# Altium footprint library halcyxn_lib_pcb.PcbLib: 35 footprints (part 2 of 3)
Each footprint in its own frame and in the unit in brackets; x right, y up, seen from the top. Pads: shape width x height; smd on the part's side, far side on the other; paste and mask are expansions set on the pad; w line width, h text height; cw(c..) or ccw(c..) is an arc to the next point about the centre after c.
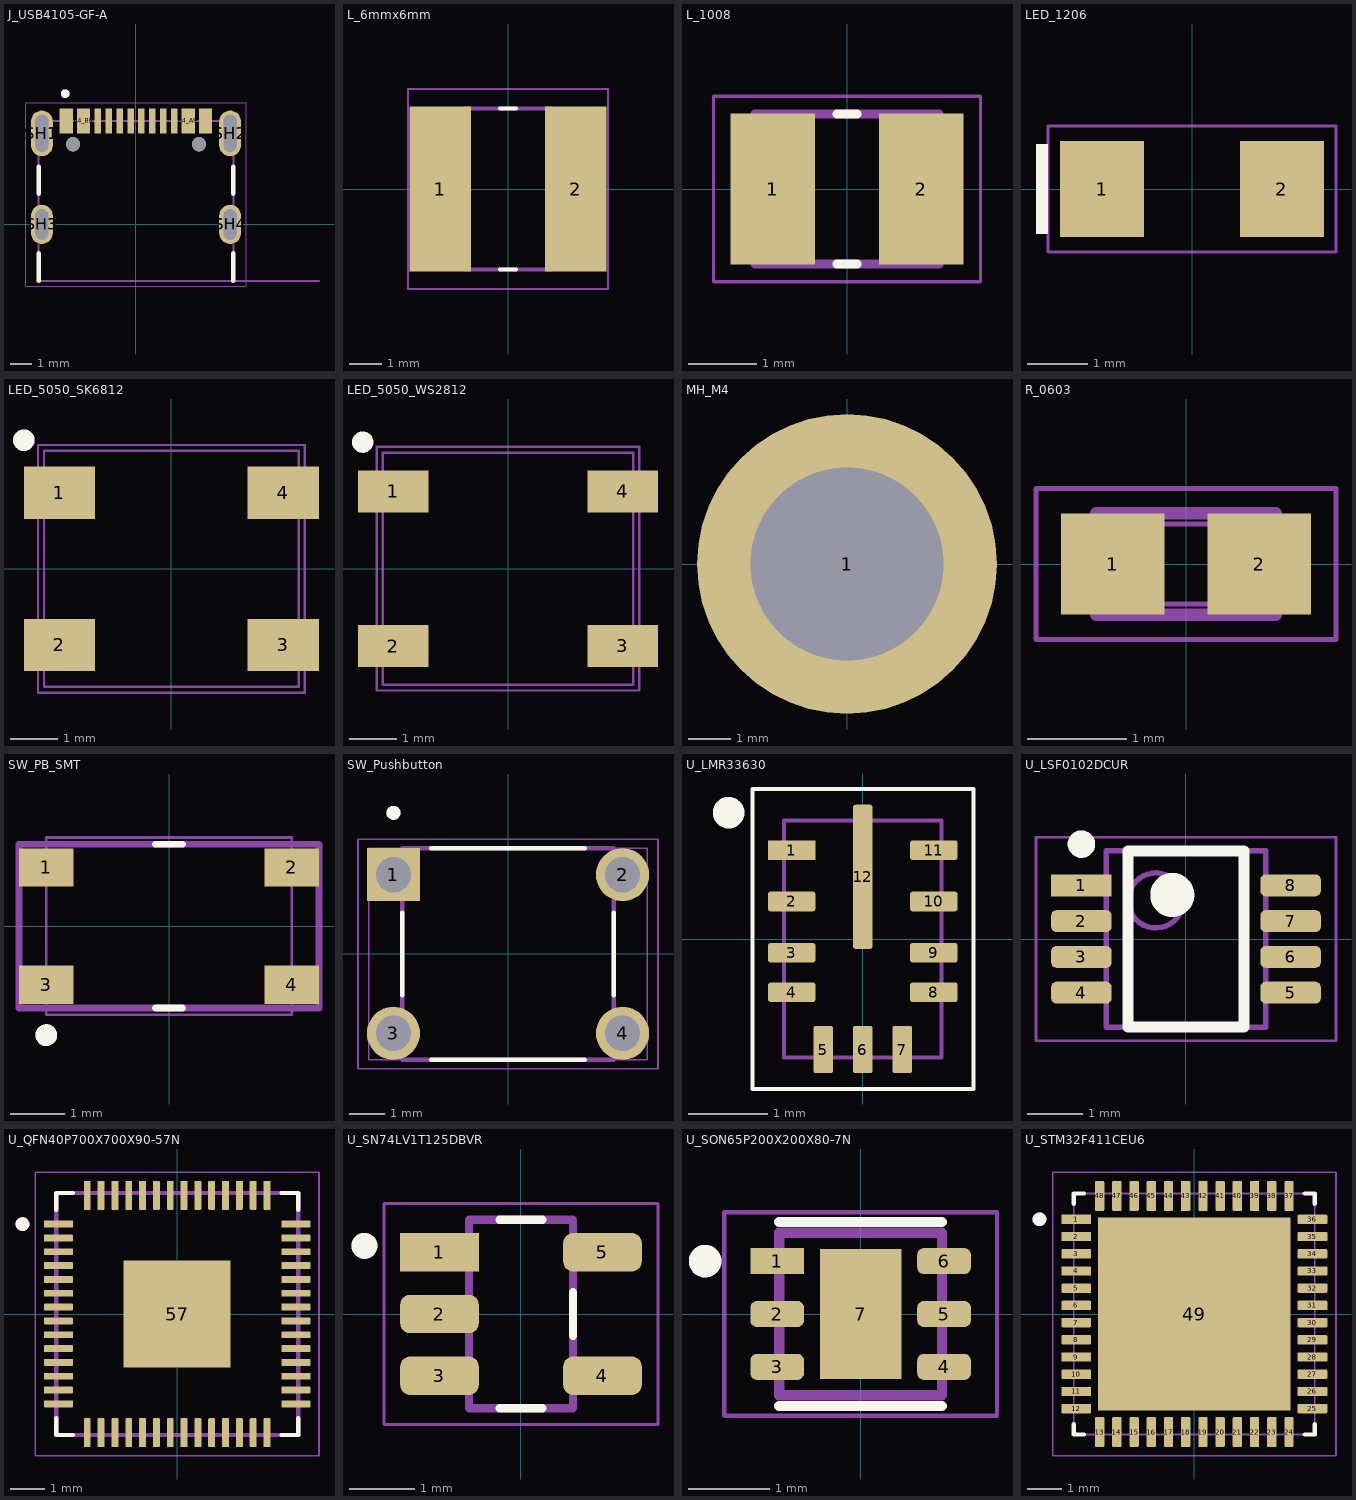
[diagram p1: the footprints below, top view; thin cyan lines are the x and y axes]

## J_USB4105-GF-A [mm]
height 3.31
pads (18):
  rect 0.6x1.15 smd mask+0.05: A1_B12(-3.2,4.755) A4_B9(-2.4,4.755) B1_A12(3.2,4.755) B4_A9(2.4,4.755)
  rect 0.3x1.15 smd mask+0.05: A5(-1.25,4.755) A6(-0.25,4.755) A7(0.25,4.755) A8(1.25,4.755) B5(1.75,4.755) B6(0.75,4.755) B7(-0.75,4.755) B8(-1.75,4.755)
  oval 1x2.1 hole 0.6 slot 1.7 at 90 deg: SH1(-4.32,4.18) SH2(4.32,4.18)
  oval 1x1.8 hole 0.6 slot 1.4 at 90 deg: SH3(-4.32,0) SH4(4.32,0)
  round 0.65 hole 0.65 unplated: ""(-2.89,3.68) ""(2.89,3.68)
Top Overlay:
  circle w0.2: c-3.25,6 r0.1
  lines w0.2: -4.47,-2.6 -4.47,-1.32 ; -4.47,1.4 -4.47,2.65 ; 4.47,-2.6 4.47,-1.32 ; 4.47,1.4 4.47,2.65
Mechanical 13:
  circle w0.2: c-3.25,6 r0.1
  lines w0.1: 8.4,-2.6 4.47,-2.6 ; 4.47,-2.6 4.47,4.75 -4.47,4.75 -4.47,-2.6 4.47,-2.6
  text "PCB EDGE" at 5.4,-2.5 h0.41
Mechanical 15:
  lines w0.05: -5.07,-2.85 -5.07,5.58 5.07,5.58 5.07,-2.85 -5.07,-2.85
3D body "USB4105-GF-A.step": height 3.31, standoff -1.1, extent -4.47,-2.6 4.47,5.11

## L_6mmx6mm [mm]
pads (2):
  rect 1.9x5.1 smd: 1(-2.1,0) 2(2.1,0)
Top Overlay:
  lines w0.127: -0.254,-2.5 0.254,-2.5 ; -0.254,2.5 0.254,2.5
Mechanical 13:
  lines w0.127: -1.35,-2.5 -1.35,2.5 1.35,2.5 1.35,-2.5 -1.35,-2.5
Mechanical 15:
  lines w0.05: -3.1,-3.1 3.1,-3.1 3.1,3.1 -3.1,3.1 -3.1,-3.1
3D body "VLS6045EX-6R8M.STEP": height 4.5, standoff 0, extent -3,-3 3,3

## L_1008 [mm]
pads (2):
  rect 1.24x2.22 smd: 1(-1.09,0) 2(1.09,0)
Top Overlay:
  lines w0.127: -0.15,-1.1 0.15,-1.1 ; -0.15,1.1 0.15,1.1
Mechanical 13:
  lines w0.127: -1.35,-1.1 -1.35,1.1 1.35,1.1 1.35,-1.1 -1.35,-1.1
Mechanical 15:
  lines w0.05: -1.958,-1.358 -1.958,1.358 1.958,1.358 1.958,-1.358 -1.958,-1.358
3D body "DFE252012P-1R0M_P2.step": height 1.2, standoff 0, extent -1.25,-1 1.25,1

## LED_1206 [mm] "SMD Mono-color Chip LED, body 3.2x1.6mm"
height 0.68
pads (2):
  rect 1.4x1.6 smd: 1(-1.5,0) 2(1.5,0)
Top Overlay:
  rectangle: -2.6,-0.75 -2.4,0.75
Mechanical 15:
  lines w0.05: -2.4,-1.05 2.4,-1.05 2.4,1.05 -2.4,1.05 -2.4,-1.05
3D body "150120xS75000.stp": height 0.68, standoff 0, extent -1.6,-0.8 1.6,0.8

## LED_5050_SK6812 [mm] "5mm x 5mm LED package"
pads (4):
  rect 1.5x1.1 smd: 1(-2.35,1.6) 2(-2.35,-1.6) 3(2.35,-1.6) 4(2.35,1.6)
Top Overlay:
  circle w0.254: c-3.1,2.7 r0.1
Top Component Outline:
  lines w0.051: -2.675,-2.475 -2.675,2.475 2.675,2.475 2.675,-2.475 -2.675,-2.475
Mechanical 15:
  lines w0.05: -2.8,-2.6 2.8,-2.6 2.8,2.6 -2.8,2.6 -2.8,-2.6
3D body "WS2812_RGB_LED_updated.step": height 1.5, standoff -0.2, extent -2.675,-2.475 2.675,2.475

## LED_5050_WS2812 [mm] "5mm x 5mm LED package"
pads (4):
  rect 1.5x0.9 smd: 1(-2.45,1.65) 2(-2.45,-1.65) 3(2.448,-1.647) 4(2.45,1.65)
Top Overlay:
  circle w0.254: c-3.1,2.7 r0.1
Top Component Outline:
  lines w0.051: -2.675,-2.475 2.675,-2.475 2.675,2.475 -2.675,2.475 -2.675,-2.475
Mechanical 15:
  lines w0.05: -2.8,-2.6 -2.8,2.6 2.8,2.6 2.8,-2.6 -2.8,-2.6
3D body "WS2812_RGB_LED_updated.step": height 1.5, standoff -0.2, extent -2.675,-2.475 2.675,2.475

## MH_M4 [mm] "M4 mounting hole"
pads (1):
  round 7 hole 4.5: 1(0,0)
3D body "???_83.STEP": height 4, standoff -18, extent -3.488,-3.5 3.488,3.5

## R_0603 [mm]
pads (2):
  rect 1.04x1.02 smd: 1(-0.735,0) 2(0.735,0)
Top Component Outline:
  lines w0.051: -0.8,-0.4 0.8,-0.4 0.8,0.4 -0.8,0.4 -0.8,-0.4
Mechanical 13:
  lines w0.127: -0.9,-0.51 0.9,-0.51 0.9,0.51 -0.9,0.51 -0.9,-0.51
Mechanical 15:
  lines w0.05: -1.508,-0.761 1.508,-0.761 1.508,0.761 -1.508,0.761 -1.508,-0.761
3D body "RC0603JR-070RL.step": height 0.55, standoff 0, extent -0.8,-0.4 0.8,0.4

## SW_PB_SMT [mm]
pads (4):
  rect 1x0.7 smd: 1(-2.25,1.075) 2(2.25,1.075) 3(-2.25,-1.075) 4(2.25,-1.075)
Top Overlay:
  circle w0.2: c-2.25,-2 r0.1
  lines w0.127: -0.25,-1.5 0.25,-1.5 ; -0.25,1.5 0.25,1.5
Mechanical 13:
  circle w0.2: c-2.25,-2 r0.1
  lines w0.127: -2.75,-1.5 -2.75,1.5 2.75,1.5 2.75,-1.5 -2.75,-1.5
Mechanical 15:
  lines w0.05: -2.25,-1.625 -2.25,1.625 2.25,1.625 2.25,-1.625 -2.25,-1.625
3D body "PTS815SJM250SMTRLFS.stp": height 2.5, standoff 0, extent -2.25,-1.6 2.25,1.6

## SW_Pushbutton [mm] "Tactile pushbutton switch, 4-pin, through-hole"
pads (4):
  rect 1.508x1.508 / inner round 1.508 / far side rect 1.508x1.508 hole 1: 1(-3.25,2.25)
  round 1.508 hole 1: 2(3.25,2.25) 3(-3.25,-2.25) 4(3.25,-2.25)
Top Overlay:
  circle w0.2: c-3.25,4.004 r0.1
  lines w0.127: -3,-1.176 -3,1.176 ; -2.176,-3 2.176,-3 ; -2.176,3 2.176,3 ; 3,-1.176 3,1.176
Top Component Outline:
  lines w0.051: -3.95,-3 3.95,-3 3.95,3 -3.95,3 -3.95,-3
Mechanical 13:
  circle w0.2: c-3.25,4.004 r0.1
  lines w0.127: -3,-3 -3,3 3,3 3,-3 -3,-3
Mechanical 15:
  lines w0.05: -4.254,-3.254 4.254,-3.254 4.254,3.254 -4.254,3.254 -4.254,-3.254
3D body "TS02-66-50-BK-160-LCR-D.STEP": height 5, standoff -3.5, extent -3.95,-3 3.95,3

## U_LMR33630 [mm] "VQFN package footprint for LMR33630"
pads (12):
  rect 0.6x0.25 smd mask+0.07: 1(-0.9,1.125)
  rrect25% 0.6x0.25 smd mask+0.07: 2(-0.9,0.475) 3(-0.9,-0.175) 4(-0.9,-0.675) 8(0.9,-0.675) 9(0.9,-0.175) 10(0.9,0.475) 11(0.9,1.125)
  rrect25% 0.25x0.6 smd mask+0.07: 5(-0.5,-1.4) 6(0,-1.4) 7(0.5,-1.4)
  rrect25% 0.25x1.825 smd mask+0.07: 12(0,0.788)
Top Overlay:
  circle w0.2: c-1.7,1.6 r0.1
  lines w0.051: -1.4,-1.9 1.4,-1.9 1.4,1.9 -1.4,1.9 -1.4,-1.9
Top Component Outline:
  lines w0.051: -1,-1.5 1,-1.5 1,1.5 -1,1.5 -1,-1.5
3D body "RNX0012A.stp": height 1, standoff 0, extent -1,-1.5 1,1.5

## U_LSF0102DCUR [mm] "TSOP, 8-Leads, Body 2.95x2.80mm, Pitch 0.65mm, IPC Medium Density"
height 1.3
pads (8):
  rect 1.1x0.4 smd mask+0.07: 1(-1.9,0.975)
  rrect50% 1.1x0.4 smd mask+0.07: 2(-1.9,0.325) 3(-1.9,-0.325) 4(-1.9,-0.975) 5(1.9,-0.975) 6(1.9,-0.325) 7(1.9,0.325) 8(1.9,0.975)
Top Overlay:
  circle w0.4: c-0.25,0.8 r0.2
  circle w0.25: c-1.9,1.725 r0.125
  lines w0.2: -1.05,-1.6 1.05,-1.6 1.05,1.6 -1.05,1.6 -1.05,-1.6
Mechanical 13:
  circle w0.1: c-0.55,0.7 r0.5
  lines w0.1: -1.45,-1.6 1.45,-1.6 1.45,1.6 -1.45,1.6 -1.45,-1.6
Mechanical 15:
  lines w0.05: -2.725,-1.85 2.725,-1.85 2.725,1.85 -2.725,1.85 -2.725,-1.85
3D body "TSOP65P400X130-8N.step": height 1.3, standoff 0, extent -2,-1.6 2,1.6

## U_QFN40P700X700X90-57N [mm] "RP2040"
height 0.9
pads (57):
  rect 0.84x0.2 smd mask+0.05: 1(-3.435,2.6)
  rrect25% 0.84x0.2 smd mask+0.05: 2(-3.435,2.2) 3(-3.435,1.8) 4(-3.435,1.4) 5(-3.435,1) 6(-3.435,0.6) 7(-3.435,0.2) 8(-3.435,-0.2) 9(-3.435,-0.6) 10(-3.435,-1) 11(-3.435,-1.4) 12(-3.435,-1.8) 13(-3.435,-2.2) 14(-3.435,-2.6) 29(3.435,-2.6) 30(3.435,-2.2) 31(3.435,-1.8) 32(3.435,-1.4) 33(3.435,-1) 34(3.435,-0.6) 35(3.435,-0.2) 36(3.435,0.2) 37(3.435,0.6) 38(3.435,1) 39(3.435,1.4) 40(3.435,1.8) 41(3.435,2.2) 42(3.435,2.6)
  rrect25% 0.2x0.84 smd mask+0.05: 15(-2.6,-3.435) 16(-2.2,-3.435) 17(-1.8,-3.435) 18(-1.4,-3.435) 19(-1,-3.435) 20(-0.6,-3.435) 21(-0.2,-3.435) 22(0.2,-3.435) 23(0.6,-3.435) 24(1,-3.435) 25(1.4,-3.435) 26(1.8,-3.435) 27(2.2,-3.435) 28(2.6,-3.435) 43(2.6,3.435) 44(2.2,3.435) 45(1.8,3.435) 46(1.4,3.435) 47(1,3.435) 48(0.6,3.435) 49(0.2,3.435) 50(-0.2,3.435) 51(-0.6,3.435) 52(-1,3.435) 53(-1.4,3.435) 54(-1.8,3.435) 55(-2.2,3.435) 56(-2.6,3.435)
  rect 3.1x3.1 smd paste-0.57 mask+0.05: 57(0,0)
Top Overlay:
  circle w0.2: c-4.475,2.6 r0.1
  lines w0.127: -3.5,-3.02 -3.5,-3.5 -3.02,-3.5 ; -3.5,3.02 -3.5,3.5 -3.02,3.5 ; 3.02,-3.5 3.5,-3.5 3.5,-3.02 ; 3.02,3.5 3.5,3.5 3.5,3.02
Mechanical 13:
  circle w0.2: c-4.475,2.6 r0.1
  lines w0.127: -3.5,-3.5 -3.5,3.5 3.5,3.5 3.5,-3.5 -3.5,-3.5
Mechanical 15:
  lines w0.05: -4.105,-4.105 -4.105,4.105 4.105,4.105 4.105,-4.105 -4.105,-4.105
3D body "IC_RP2040.step": height 0.93, standoff -0.02, extent -3.53,-3.52 3.52,3.52

## U_SN74LV1T125DBVR [mm]
pads (5):
  rect 1.21x0.59 smd: 1(-1.255,0.95)
  rrect50% 1.21x0.59 smd: 2(-1.255,0) 3(-1.255,-0.95) 4(1.255,-0.95) 5(1.255,0.95)
Top Overlay:
  circle w0.2: c-2.41,1.05 r0.1
  lines w0.127: -0.33,-1.45 0.33,-1.45 ; -0.33,1.45 0.33,1.45 ; 0.8,-0.335 0.8,0.335
Mechanical 13:
  circle w0.2: c-2.41,1.05 r0.1
  lines w0.127: -0.8,-1.45 -0.8,1.45 0.8,1.45 0.8,-1.45 -0.8,-1.45
Mechanical 15:
  lines w0.05: -2.11,-1.7 2.11,-1.7 2.11,1.7 -2.11,1.7 -2.11,-1.7
3D body "step_temp.STEP": height 1.45, standoff 0, extent -1.4,-1.45 1.4,1.45

## U_SON65P200X200X80-7N [mm] "TLV76733DRVR"
pads (7):
  rect 0.66x0.32 smd mask+0.05: 1(-1.025,0.65)
  rrect50% 0.66x0.32 smd mask+0.05: 2(-1.025,0) 3(-1.025,-0.65) 4(1.025,-0.65) 5(1.025,0) 6(1.025,0.65)
  rect 1x1.6 smd paste-2 mask+0.05: 7(0,0)
Top Overlay:
  circle w0.2: c-1.91,0.65 r0.1
  lines w0.127: -1,-1.13 1,-1.13 ; -1,1.13 1,1.13
Top Paste:
  region: 0.316,-0.506 -0.316,-0.506 -0.316,0.506 0.316,0.506
Mechanical 13:
  circle w0.2: c-1.91,0.65 r0.1
  lines w0.127: -1,-1 -1,1 1,1 1,-1 -1,-1
Mechanical 15:
  lines w0.05: -1.675,-1.25 -1.675,1.25 1.675,1.25 1.675,-1.25 -1.675,-1.25
3D body "step_temp.STEP": height 0.8, standoff 0, extent -1,-1 1,1

## U_STM32F411CEU6 [mm] "48-UFQFPN package, including ground pad"
pads (49):
  rect 0.87x0.27 smd mask+0.044: 1(-3.43,2.75)
  rrect25% 0.87x0.27 smd mask+0.044: 2(-3.43,2.25) 3(-3.43,1.75) 4(-3.43,1.25) 5(-3.43,0.75) 6(-3.43,0.25) 7(-3.43,-0.25) 8(-3.43,-0.75) 9(-3.43,-1.25) 10(-3.43,-1.75) 11(-3.43,-2.25) 12(-3.43,-2.75) 25(3.43,-2.75) 26(3.43,-2.25) 27(3.43,-1.75) 28(3.43,-1.25) 29(3.43,-0.75) 30(3.43,-0.25) 31(3.43,0.25) 32(3.43,0.75) 33(3.43,1.25) 34(3.43,1.75) 35(3.43,2.25) 36(3.43,2.75)
  rrect25% 0.27x0.87 smd mask+0.044: 13(-2.75,-3.43) 14(-2.25,-3.43) 15(-1.75,-3.43) 16(-1.25,-3.43) 17(-0.75,-3.43) 18(-0.25,-3.43) 19(0.25,-3.43) 20(0.75,-3.43) 21(1.25,-3.43) 22(1.75,-3.43) 23(2.25,-3.43) 24(2.75,-3.43) 37(2.75,3.43) 38(2.25,3.43) 39(1.75,3.43) 40(1.25,3.43) 41(0.75,3.43) 42(0.25,3.43) 43(-0.25,3.43) 44(-0.75,3.43) 45(-1.25,3.43) 46(-1.75,3.43) 47(-2.25,3.43) 48(-2.75,3.43)
  rect 5.6x5.6 smd paste-4 mask+0.04: 49(0,0)
Top Overlay:
  circle w0.2: c-4.5,2.75 r0.1
  lines w0.127: -3.5,-3.205 -3.5,-3.5 -3.205,-3.5 ; -3.5,3.205 -3.5,3.5 -3.205,3.5 ; 3.205,-3.5 3.5,-3.5 3.5,-3.205 ; 3.205,3.5 3.5,3.5 3.5,3.205
Top Paste:
  region: 2.29,-2.29 0.51,-2.29 0.51,-0.51 2.29,-0.51
  region: -0.51,-2.29 -2.29,-2.29 -2.29,-0.51 -0.51,-0.51
  region: 2.29,0.51 0.51,0.51 0.51,2.29 2.29,2.29
  region: -0.51,0.51 -2.29,0.51 -2.29,2.29 -0.51,2.29
Top Component Outline:
  lines w0.051: -3.5,-3.5 3.5,-3.5 3.5,3.5 -3.5,3.5 -3.5,-3.5
Mechanical 13:
  circle w0.2: c-4.5,2.75 r0.1
Mechanical 15:
  lines w0.05: -4.115,-4.115 -4.115,4.115 4.115,4.115 4.115,-4.115 -4.115,-4.115
3D body "STM32F411CEU6.step": height 0.6, standoff 0, extent -3.5,-3.5 3.5,3.5